# Altium footprint library SOD2513X120N.PcbLib: 1 footprints
Each footprint in its own frame and in the unit in brackets; x right, y up, seen from the top. Pads: shape width x height; smd on the part's side, far side on the other; paste and mask are expansions set on the pad; w line width, h text height; cw(c..) or ccw(c..) is an arc to the next point about the centre after c.
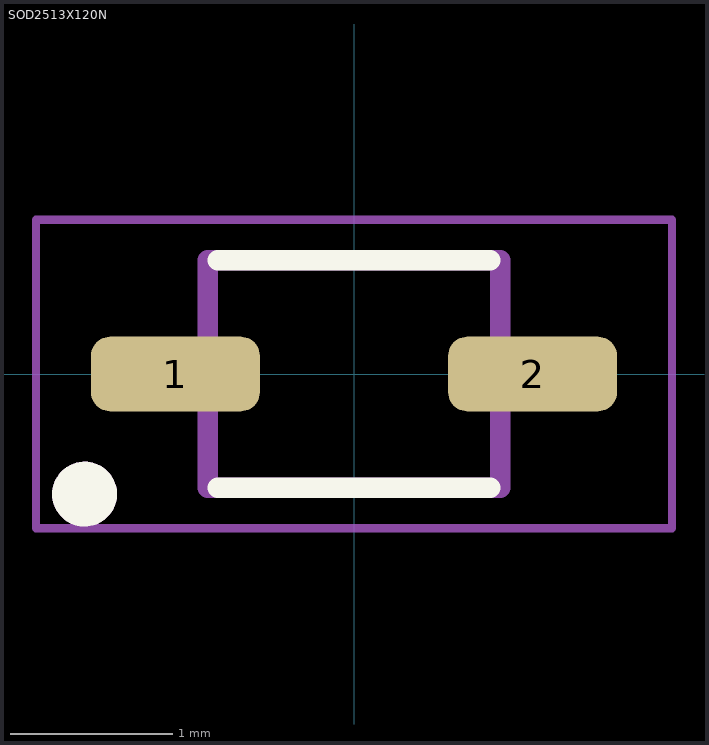
[diagram p0: the footprint, top view; thin cyan lines are the x and y axes]

## SOD2513X120N [mm]
pads (2):
  rrect50% 1.04x0.46 smd: 1(-1.1,0) 2(1.1,0)
Top Overlay:
  circle w0.2: c-1.66,-0.74 r0.1
  lines w0.127: -0.84,-0.7 0.84,-0.7 ; -0.84,0.7 0.84,0.7
Assembly Top:
  circle w0.2: c-1.66,-0.74 r0.1
  lines w0.127: -0.9,-0.7 -0.9,0.7 0.9,0.7 0.9,-0.7 -0.9,-0.7
Top Courtyard:
  lines w0.05: -1.96,-0.95 -1.96,0.95 1.96,0.95 1.96,-0.95 -1.96,-0.95
3D body "step_temp.STEP": height 1.2, standoff 0, extent -1.25,-0.65 1.25,0.65